# Altium schematic symbol library 接口.SchLib: 85 symbols
Pins are listed as number, name and electrical type; pins without a type are passive.

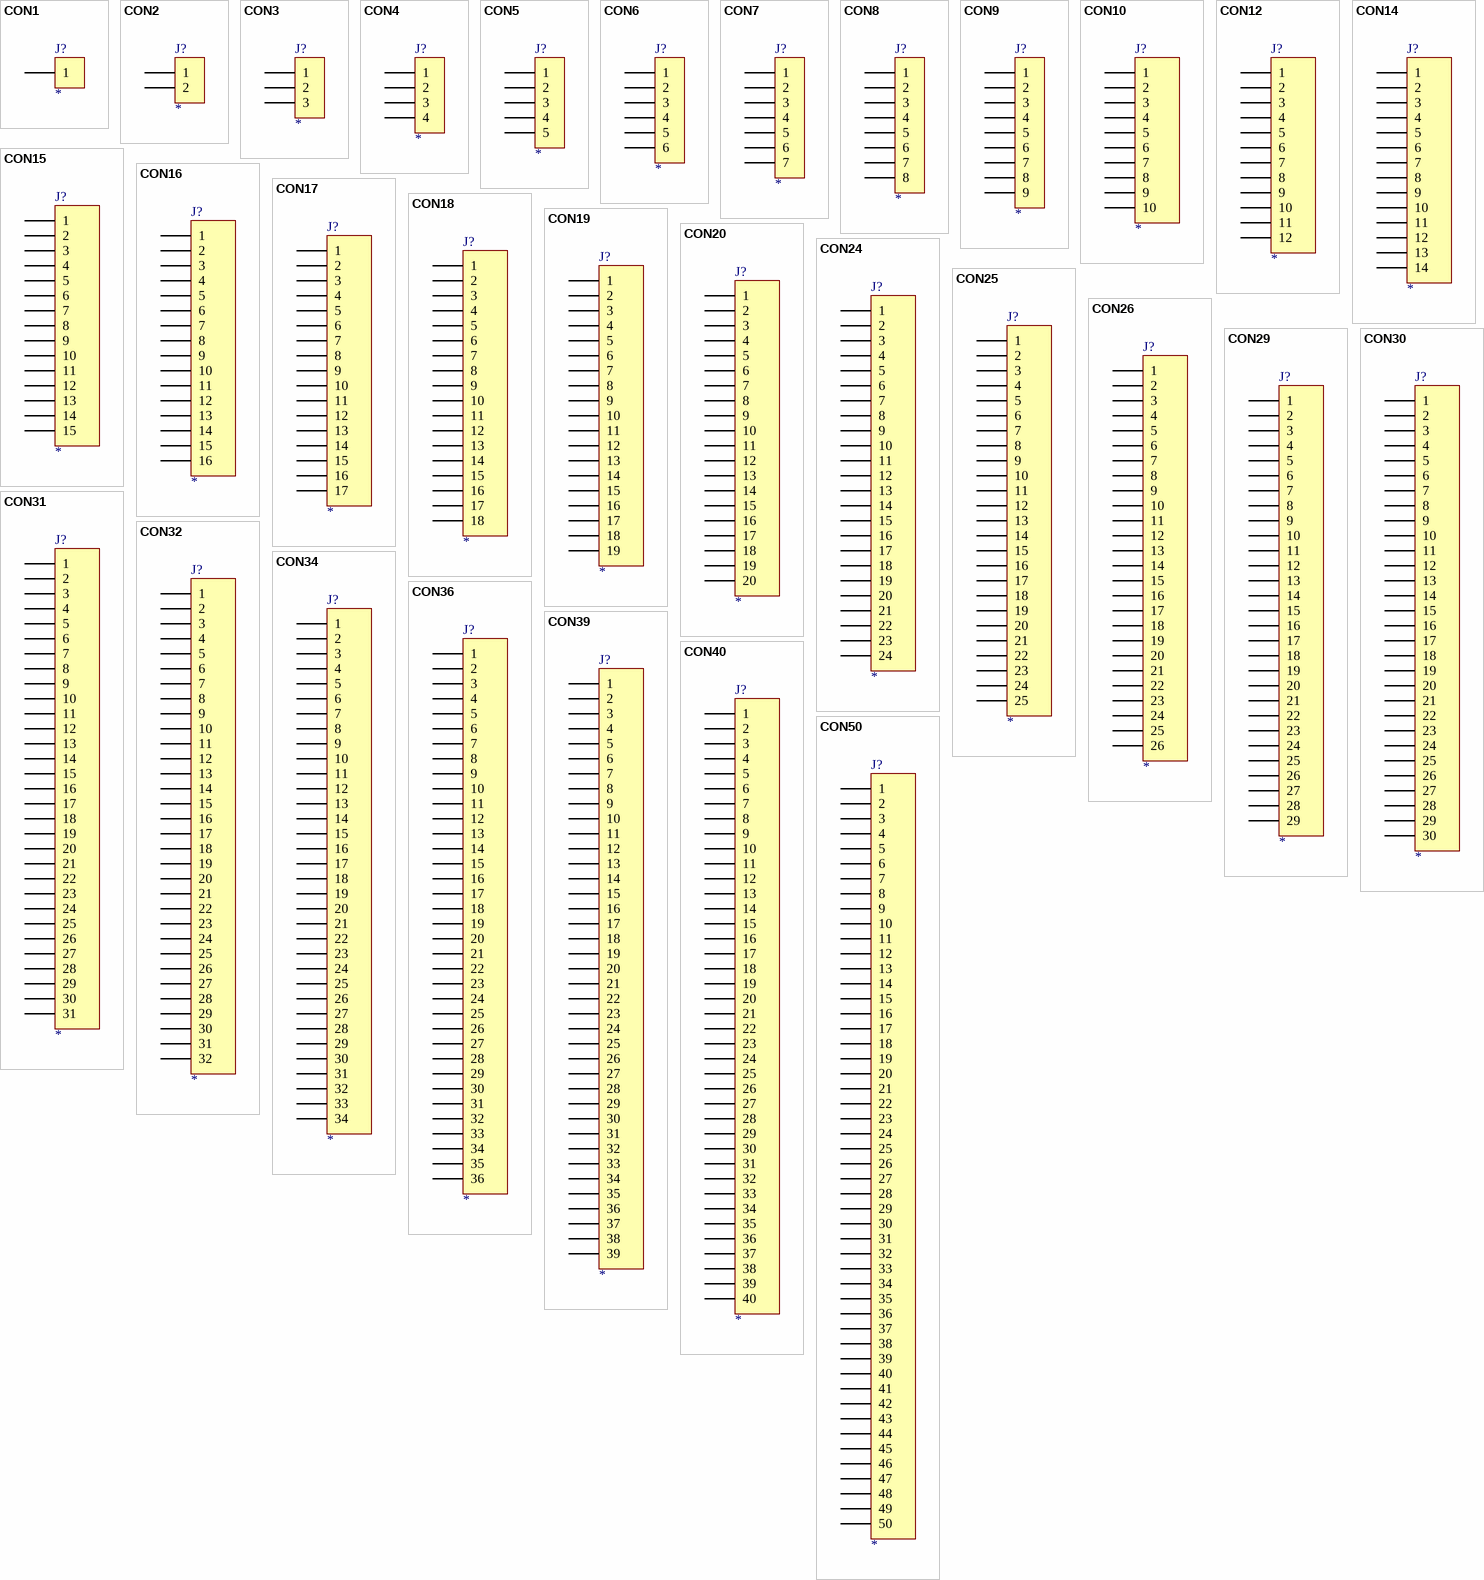
[diagram p0: symbols CON1 to CON50]

## CON1
designator J?
Connector
footprint SIP-1
footprint sip1
pins: 1

## CON2
designator J?
Connector
footprint sip2
footprint sip-2
footprint BCON2
pins: 1, 2

## CON3
designator J?
Connector
footprint sip3
footprint sip-3
footprint BCON3
pins: 1, 2, 3

## CON4
designator J?
Connector
footprint sip4
footprint sip-4
pins: 1, 2, 3, 4

## CON5
designator J?
Connector
footprint sip5
footprint sip-5
pins: 1, 2, 3, 4, 5

## CON6
designator J?
Connector
footprint sip6
footprint sip-6
pins: 1, 2, 3, 4, 5, 6

## CON7
designator J?
Connector
footprint sip7
footprint sip-7
pins: 1, 2, 3, 4, 5, 6, 7

## CON8
designator J?
Connector
footprint sip8
footprint sip-8
pins: 1, 2, 3, 4, 5, 6, 7, 8

## CON9
designator J?
Connector
footprint sip9
footprint sip-9
pins: 1, 2, 3, 4, 5, 6, 7, 8, 9

## CON10
designator J?
Connector
footprint sip10
footprint sip-10
pins: 1, 2, 3, 4, 5, 6, 7, 8, 9, 10

## CON12
designator J?
Connector
footprint sip12
footprint sip-12
pins: 1, 2, 3, 4, 5, 6, 7, 8, 9, 10, 11, 12

## CON14
designator J?
Connector
footprint sip14
footprint sip-14
pins: 1, 2, 3, 4, 5, 6, 7, 8, 9, 10, 11, 12, 13, 14

## CON15
designator J?
Connector
footprint sip15
footprint sip-15
pins: 1, 2, 3, 4, 5, 6, 7, 8, 9, 10, 11, 12, 13, 14, 15

## CON16
designator J?
Connector
footprint sip16
footprint sip-16
pins: 1, 2, 3, 4, 5, 6, 7, 8, 9, 10, 11, 12, 13, 14, 15, 16

## CON17
designator J?
Connector
footprint sip17
footprint sip-17
pins: 1, 2, 3, 4, 5, 6, 7, 8, 9, 10, 11, 12, 13, 14, 15, 16, 17

## CON18
designator J?
Connector
footprint sip18
footprint sip-18
pins: 1, 2, 3, 4, 5, 6, 7, 8, 9, 10, 11, 12, 13, 14, 15, 16, 17, 18

## CON19
designator J?
Connector
footprint sip19
footprint sip-19
pins: 1, 2, 3, 4, 5, 6, 7, 8, 9, 10, 11, 12, 13, 14, 15, 16, 17, 18, 19

## CON20
designator J?
Connector
footprint sip20
footprint sip-20
pins: 1, 2, 3, 4, 5, 6, 7, 8, 9, 10, 11, 12, 13, 14, 15, 16, 17, 18, 19, 20

## CON24
designator J?
Connector
footprint sip24
footprint sip-24
pins: 1, 2, 3, 4, 5, 6, 7, 8, 9, 10, 11, 12, 13, 14, 15, 16, 17, 18, 19, 20, 21, 22, 23, 24

## CON25
designator J?
Connector
footprint sip25
footprint sip-25
pins: 1, 2, 3, 4, 5, 6, 7, 8, 9, 10, 11, 12, 13, 14, 15, 16, 17, 18, 19, 20, 21, 22, 23, 24, 25

## CON26
designator J?
Connector
footprint sip26
footprint sip-26
pins: 1, 2, 3, 4, 5, 6, 7, 8, 9, 10, 11, 12, 13, 14, 15, 16, 17, 18, 19, 20, 21, 22, 23, 24, 25, 26

## CON29
designator J?
Connector
footprint sip29
footprint sip-29
pins: 1, 2, 3, 4, 5, 6, 7, 8, 9, 10, 11, 12, 13, 14, 15, 16, 17, 18, 19, 20, 21, 22, 23, 24, 25, 26, 27, 28, 29

## CON30
designator J?
Connector
footprint sip30
footprint sip-30
pins: 1, 2, 3, 4, 5, 6, 7, 8, 9, 10, 11, 12, 13, 14, 15, 16, 17, 18, 19, 20, 21, 22, 23, 24, 25, 26, 27, 28, 29, 30

## CON31
designator J?
Connector
footprint sip31
footprint sip-31
pins: 1, 2, 3, 4, 5, 6, 7, 8, 9, 10, 11, 12, 13, 14, 15, 16, 17, 18, 19, 20, 21, 22, 23, 24, 25, 26, 27, 28, 29, 30, 31

## CON32
designator J?
Connector
footprint sip32
footprint sip-32
pins: 1, 2, 3, 4, 5, 6, 7, 8, 9, 10, 11, 12, 13, 14, 15, 16, 17, 18, 19, 20, 21, 22, 23, 24, 25, 26, 27, 28, 29, 30, 31, 32

## CON34
designator J?
Connector
footprint sip34
footprint sip-34
pins: 1, 2, 3, 4, 5, 6, 7, 8, 9, 10, 11, 12, 13, 14, 15, 16, 17, 18, 19, 20, 21, 22, 23, 24, 25, 26, 27, 28, 29, 30, 31, 32, 33, 34

## CON36
designator J?
Connector
footprint sip36
footprint sip-36
pins: 1, 2, 3, 4, 5, 6, 7, 8, 9, 10, 11, 12, 13, 14, 15, 16, 17, 18, 19, 20, 21, 22, 23, 24, 25, 26, 27, 28, 29, 30, 31, 32, 33, 34, 35, 36

## CON39
designator J?
Connector
footprint sip39
footprint sip-39
pins: 1, 2, 3, 4, 5, 6, 7, 8, 9, 10, 11, 12, 13, 14, 15, 16, 17, 18, 19, 20, 21, 22, 23, 24, 25, 26, 27, 28, 29, 30, 31, 32, 33, 34, 35, 36, 37, 38, 39

## CON40
designator J?
Connector
footprint sip40
footprint sip-40
pins: 1, 2, 3, 4, 5, 6, 7, 8, 9, 10, 11, 12, 13, 14, 15, 16, 17, 18, 19, 20, 21, 22, 23, 24, 25, 26, 27, 28, 29, 30, 31, 32, 33, 34, 35, 36, 37, 38, 39, 40

## CON50
designator J?
Connector
footprint sip50
footprint sip-50
pins: 1, 2, 3, 4, 5, 6, 7, 8, 9, 10, 11, 12, 13, 14, 15, 16, 17, 18, 19, 20, 21, 22, 23, 24, 25, 26, 27, 28, 29, 30, 31, 32, 33, 34, 35, 36, 37, 38, 39, 40, 41, 42, 43, 44, 45, 46, 47, 48, 49, 50

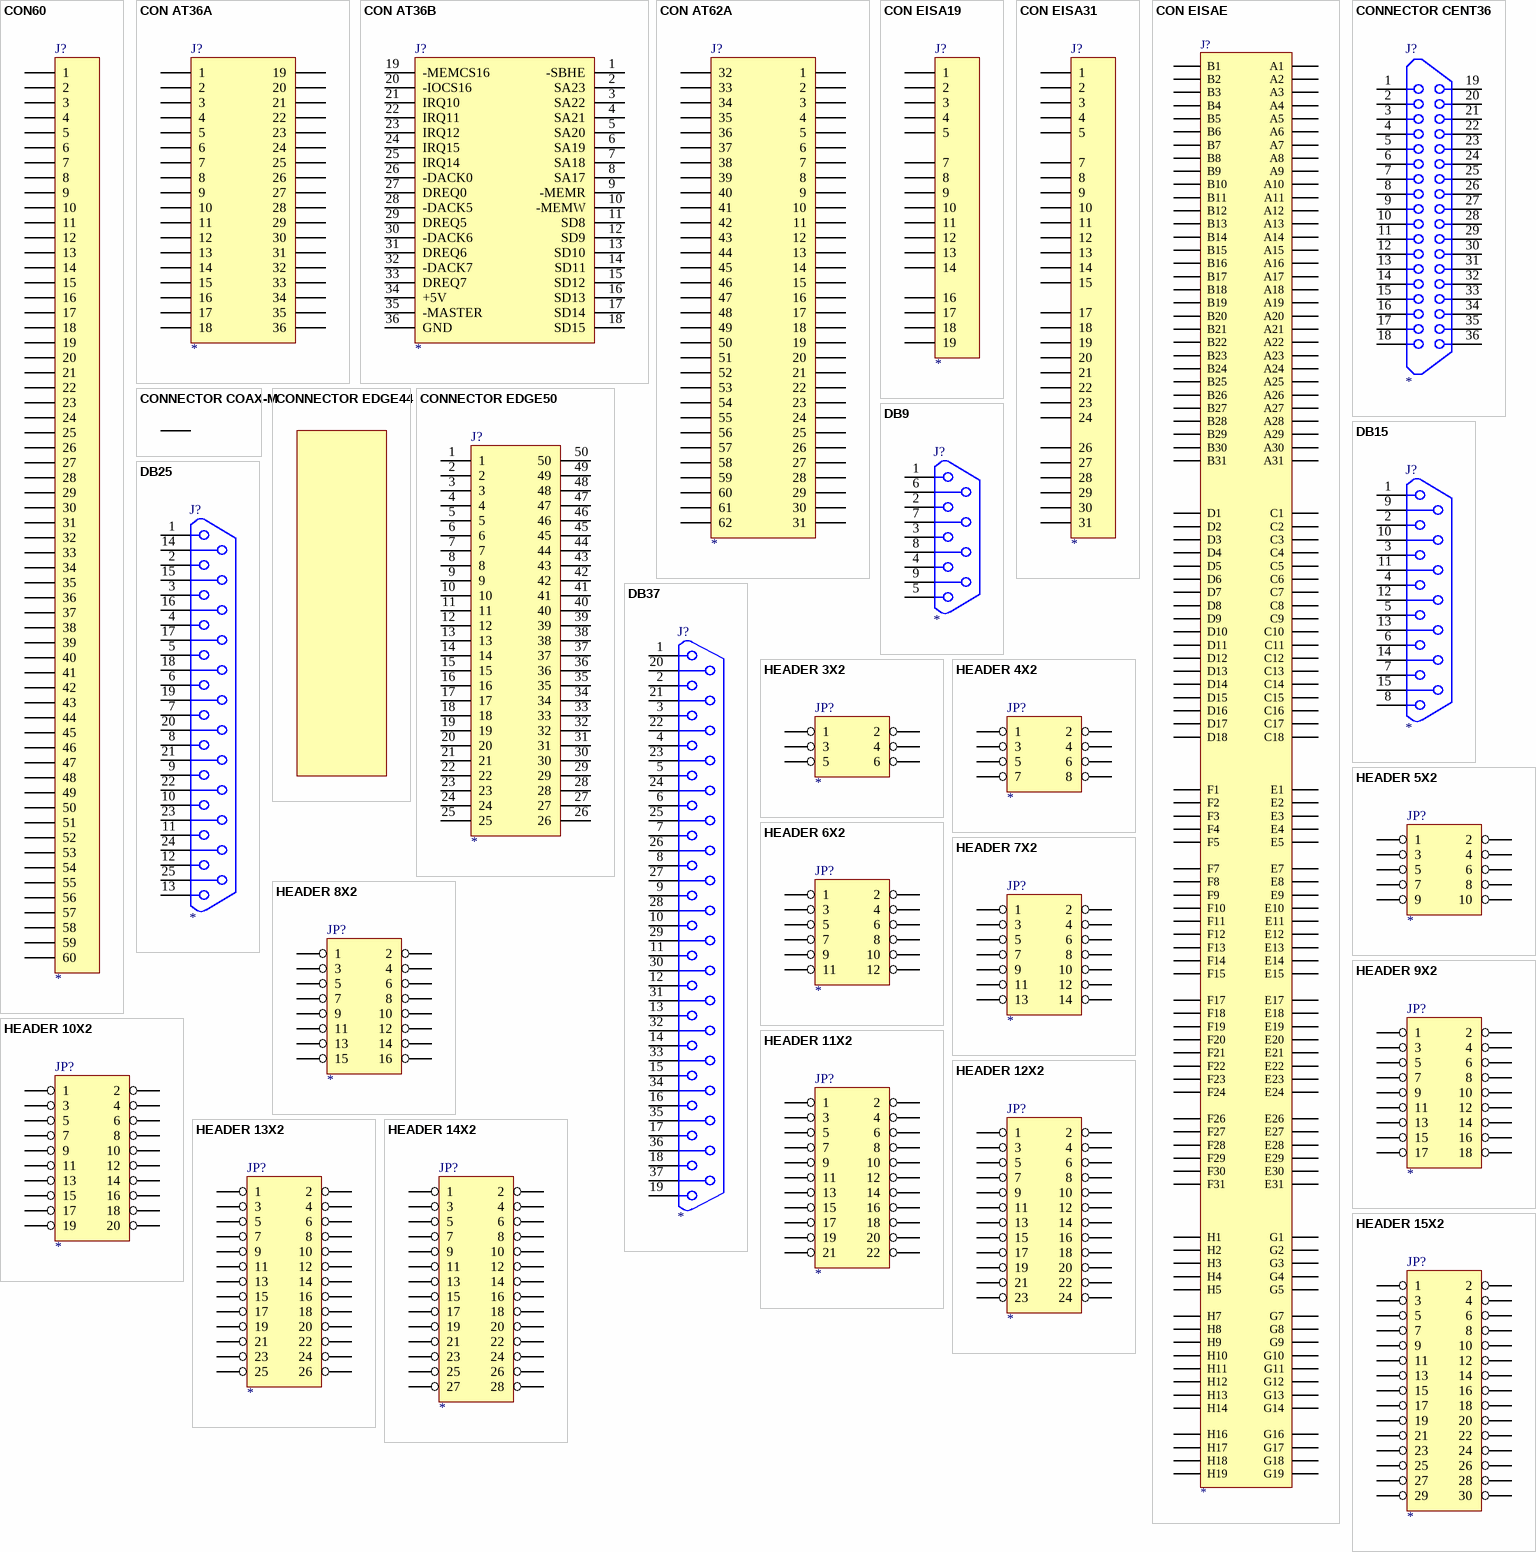
[diagram p1: symbols CON60 to HEADER 15X2]

## CON60
designator J?
Connector
footprint sip60
footprint sip-60
pins: 1, 2, 3, 4, 5, 6, 7, 8, 9, 10, 11, 12, 13, 14, 15, 16, 17, 18, 19, 20, 21, 22, 23, 24, 25, 26, 27, 28, 29, 30, 31, 32, 33, 34, 35, 36, 37, 38, 39, 40, 41, 42, 43, 44, 45, 46, 47, 48, 49, 50, 51, 52, 53, 54, 55, 56, 57, 58, 59, 60

## CON AT36A
designator J?
36 Pin AT Connector
pins: 1, 2, 3, 4, 5, 6, 7, 8, 9, 10, 11, 12, 13, 14, 15, 16, 17, 18, 19, 20, 21, 22, 23, 24, 25, 26, 27, 28, 29, 30, 31, 32, 33, 34, 35, 36

## CON AT36B
designator J?
36 Pin AT Connector
pins: 1 -SBHE, 2 SA23, 3 SA22, 4 SA21, 5 SA20, 6 SA19, 7 SA18, 8 SA17, 9 -MEMR, 10 -MEMW, 11 SD8, 12 SD9, 13 SD10, 14 SD11, 15 SD12, 16 SD13, 17 SD14, 18 SD15, 19 -MEMCS16, 20 -IOCS16, 21 IRQ10, 22 IRQ11, 23 IRQ12, 24 IRQ15, 25 IRQ14, 26 -DACK0, 27 DREQ0, 28 -DACK5, 29 DREQ5, 30 -DACK6, 31 DREQ6, 32 -DACK7, 33 DREQ7, 34 +5V, 35 -MASTER, 36 GND

## CON AT62A
designator J?
62 Pin AT Connector
pins: 1, 2, 3, 4, 5, 6, 7, 8, 9, 10, 11, 12, 13, 14, 15, 16, 17, 18, 19, 20, 21, 22, 23, 24, 25, 26, 27, 28, 29, 30, 31, 32, 33, 34, 35, 36, 37, 38, 39, 40, 41, 42, 43, 44, 45, 46, 47, 48, 49, 50, 51, 52, 53, 54, 55, 56, 57, 58, 59, 60, 61, 62

## CON EISA19
designator J?
19 Pin EISA Connector
pins: 1, 2, 3, 4, 5, 7, 8, 9, 10, 11, 12, 13, 14, 16, 17, 18, 19

## CON EISA31
designator J?
31 Pin EISA Connector
pins: 1, 2, 3, 4, 5, 7, 8, 9, 10, 11, 12, 13, 14, 15, 17, 18, 19, 20, 21, 22, 23, 24, 26, 27, 28, 29, 30, 31

## CON EISA62
designator ?
62 Pin EISA Connector

## CON EISAE
designator J?
168 Pin EISA Connector
pins: A1, A2, A3, A4, A5, A6, A7, A8, A9, A10, A11, A12, A13, A14, A15, A16, A17, A18, A19, A20, A21, A22, A23, A24, A25, A26, A27, A28, A29, A30, A31, B1, B2, B3, B4, B5, B6, B7, B8, B9, B10, B11, B12, B13, B14, B15, B16, B17, B18, B19, B20, B21, B22, B23, B24, B25, B26, B27, B28, B29, B30, B31, C1, C2, C3, C4, C5, C6, C7, C8, C9, C10, C11, C12, C13, C14, C15, C16, C17, C18, D1, D2, D3, D4, D5, D6, D7, D8, D9, D10, D11, D12, D13, D14, D15, D16, D17, D18, E1, E2, E3, E4, E5, E7, E8, E9, E10, E11, E12, E13, E14, E15, E17, E18, E19, E20, E21, E22, E23, E24, E26, E27, E28, E29, E30, E31, F1, F2, F3, F4, F5, F7, F8, F9, F10, F11, F12, F13, F14, F15, F17, F18, F19, F20, F21, F22, F23, F24, F26, F27, F28, F29, F30, F31, G1, G2, G3, G4, G5, G7, G8, G9, G10, G11, G12, G13, G14, G16, G17, G18, G19, H1, H2, H3, H4, H5, H7, H8, H9, H10, H11, H12, H13, H14, H16, H17, H18, H19

## CONNECTOR CENT36
designator J?
pins: 1, 2, 3, 4, 5, 6, 7, 8, 9, 10, 11, 12, 13, 14, 15, 16, 17, 18, 19, 20, 21, 22, 23, 24, 25, 26, 27, 28, 29, 30, 31, 32, 33, 34, 35, 36

## CONNECTOR COAX
designator ?

## CONNECTOR COAX-F
designator ?

## CONNECTOR COAX-M
designator ?
pins: A

## CONNECTOR EDGE44
designator ?
pins: ?1 |&|@%A  (in) hidden "lï622~&|%"	âÿ 3�33|&|%@�A   Àï444\&|% "

## CONNECTOR EDGE50
designator J?
pins: 1, 2, 3, 4, 5, 6, 7, 8, 9, 10, 11, 12, 13, 14, 15, 16, 17, 18, 19, 20, 21, 22, 23, 24, 25, 26, 27, 28, 29, 30, 31, 32, 33, 34, 35, 36, 37, 38, 39, 40, 41, 42, 43, 44, 45, 46, 47, 48, 49, 50

## DB9
designator J?
footprint DB9FL
pins: 1, 2, 3, 4, 5, 6, 7, 8, 9

## DB15
designator J?
footprint DB-15/M
pins: 1, 2, 3, 4, 5, 6, 7, 8, 9, 10, 11, 12, 13, 14, 15

## DB25
designator J?
pins: 1, 2, 3, 4, 5, 6, 7, 8, 9, 10, 11, 12, 13, 14, 15, 16, 17, 18, 19, 20, 21, 22, 23, 24, 25

## DB37
designator J?
footprint DB-37/M
pins: 1, 2, 3, 4, 5, 6, 7, 8, 9, 10, 11, 12, 13, 14, 15, 16, 17, 18, 19, 20, 21, 22, 23, 24, 25, 26, 27, 28, 29, 30, 31, 32, 33, 34, 35, 36, 37

## HEADER 3X2
designator JP?
footprint IDC6
footprint IDC-6
pins: 1, 2, 3, 4, 5, 6

## HEADER 4X2
designator JP?
footprint IDC8
footprint IDC-8
pins: 1, 2, 3, 4, 5, 6, 7, 8

## HEADER 5X2
designator JP?
footprint IDC10
footprint IDC-10
pins: 1, 2, 3, 4, 5, 6, 7, 8, 9, 10

## HEADER 6X2
designator JP?
footprint IDC12
footprint IDC-12
pins: 1, 2, 3, 4, 5, 6, 7, 8, 9, 10, 11, 12

## HEADER 7X2
designator JP?
footprint IDC14
footprint IDC-14
pins: 1, 2, 3, 4, 5, 6, 7, 8, 9, 10, 11, 12, 13, 14

## HEADER 8X2
designator JP?
footprint IDC16
footprint IDC-16
pins: 1, 2, 3, 4, 5, 6, 7, 8, 9, 10, 11, 12, 13, 14, 15, 16

## HEADER 9X2
designator JP?
footprint IDC18
footprint IDC-18
pins: 1, 2, 3, 4, 5, 6, 7, 8, 9, 10, 11, 12, 13, 14, 15, 16, 17, 18

## HEADER 10X2
designator JP?
footprint IDC20
footprint IDC-20
pins: 1, 2, 3, 4, 5, 6, 7, 8, 9, 10, 11, 12, 13, 14, 15, 16, 17, 18, 19, 20

## HEADER 11X2
designator JP?
footprint IDC22
footprint IDC-22
pins: 1, 2, 3, 4, 5, 6, 7, 8, 9, 10, 11, 12, 13, 14, 15, 16, 17, 18, 19, 20, 21, 22

## HEADER 12X2
designator JP?
footprint IDC24
footprint IDC-24
pins: 1, 2, 3, 4, 5, 6, 7, 8, 9, 10, 11, 12, 13, 14, 15, 16, 17, 18, 19, 20, 21, 22, 23, 24

## HEADER 13X2
designator JP?
footprint IDC26
footprint IDC-26
pins: 1, 2, 3, 4, 5, 6, 7, 8, 9, 10, 11, 12, 13, 14, 15, 16, 17, 18, 19, 20, 21, 22, 23, 24, 25, 26

## HEADER 14X2
designator JP?
footprint IDC28
footprint IDC-28
pins: 1, 2, 3, 4, 5, 6, 7, 8, 9, 10, 11, 12, 13, 14, 15, 16, 17, 18, 19, 20, 21, 22, 23, 24, 25, 26, 27, 28

## HEADER 15X2
designator JP?
footprint IDC30
footprint IDC-30
pins: 1, 2, 3, 4, 5, 6, 7, 8, 9, 10, 11, 12, 13, 14, 15, 16, 17, 18, 19, 20, 21, 22, 23, 24, 25, 26, 27, 28, 29, 30

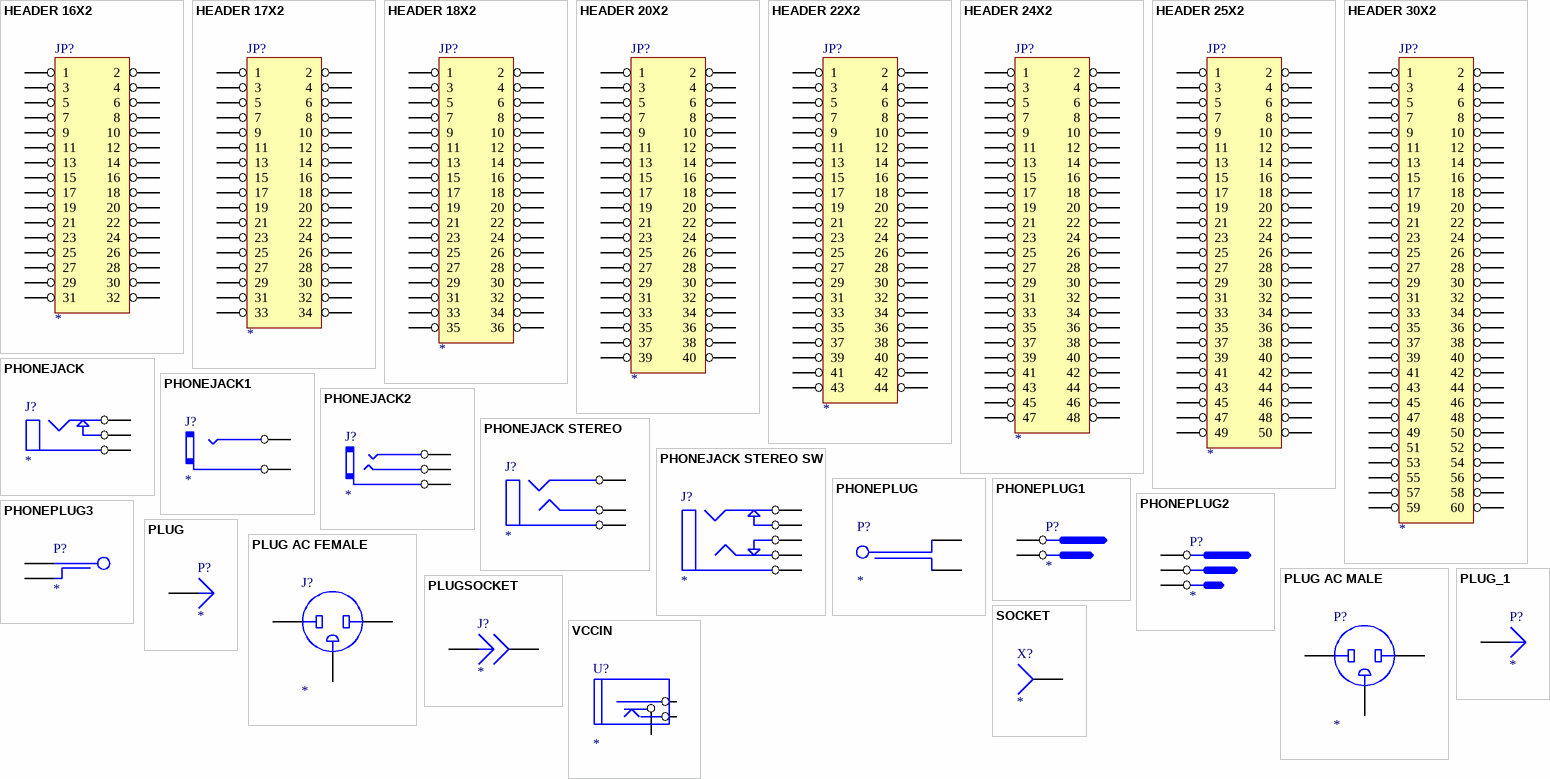
[diagram p2: symbols HEADER 16X2 to VCCIN]

## HEADER 16X2
designator JP?
footprint IDC32
footprint IDC-32
pins: 1, 2, 3, 4, 5, 6, 7, 8, 9, 10, 11, 12, 13, 14, 15, 16, 17, 18, 19, 20, 21, 22, 23, 24, 25, 26, 27, 28, 29, 30, 31, 32

## HEADER 17X2
designator JP?
footprint IDC34
footprint IDC-34
pins: 1, 2, 3, 4, 5, 6, 7, 8, 9, 10, 11, 12, 13, 14, 15, 16, 17, 18, 19, 20, 21, 22, 23, 24, 25, 26, 27, 28, 29, 30, 31, 32, 33, 34

## HEADER 18X2
designator JP?
footprint IDC36
footprint IDC-36
pins: 1, 2, 3, 4, 5, 6, 7, 8, 9, 10, 11, 12, 13, 14, 15, 16, 17, 18, 19, 20, 21, 22, 23, 24, 25, 26, 27, 28, 29, 30, 31, 32, 33, 34, 35, 36

## HEADER 20X2
designator JP?
footprint IDC40
footprint IDC-40
pins: 1, 2, 3, 4, 5, 6, 7, 8, 9, 10, 11, 12, 13, 14, 15, 16, 17, 18, 19, 20, 21, 22, 23, 24, 25, 26, 27, 28, 29, 30, 31, 32, 33, 34, 35, 36, 37, 38, 39, 40

## HEADER 22X2
designator JP?
footprint IDC44
footprint IDC-44
pins: 1, 2, 3, 4, 5, 6, 7, 8, 9, 10, 11, 12, 13, 14, 15, 16, 17, 18, 19, 20, 21, 22, 23, 24, 25, 26, 27, 28, 29, 30, 31, 32, 33, 34, 35, 36, 37, 38, 39, 40, 41, 42, 43, 44

## HEADER 24X2
designator JP?
pins: 1, 2, 3, 4, 5, 6, 7, 8, 9, 10, 11, 12, 13, 14, 15, 16, 17, 18, 19, 20, 21, 22, 23, 24, 25, 26, 27, 28, 29, 30, 31, 32, 33, 34, 35, 36, 37, 38, 39, 40, 41, 42, 43, 44, 45, 46, 47, 48

## HEADER 25X2
designator JP?
pins: 1, 2, 3, 4, 5, 6, 7, 8, 9, 10, 11, 12, 13, 14, 15, 16, 17, 18, 19, 20, 21, 22, 23, 24, 25, 26, 27, 28, 29, 30, 31, 32, 33, 34, 35, 36, 37, 38, 39, 40, 41, 42, 43, 44, 45, 46, 47, 48, 49, 50

## HEADER 30X2
designator JP?
pins: 1, 2, 3, 4, 5, 6, 7, 8, 9, 10, 11, 12, 13, 14, 15, 16, 17, 18, 19, 20, 21, 22, 23, 24, 25, 26, 27, 28, 29, 30, 31, 32, 33, 34, 35, 36, 37, 38, 39, 40, 41, 42, 43, 44, 45, 46, 47, 48, 49, 50, 51, 52, 53, 54, 55, 56, 57, 58, 59, 60

## PHONEJACK
designator J?
footprint DIP-3
pins: 1 A, 2 B, 3 C

## PHONEJACK1
designator J?
pins: 1 A, 2 B

## PHONEJACK2
designator J?
pins: 1 A, 2 B, 3 C

## PHONEJACK STEREO
designator J?
footprint DIP-3
pins: 1 A, 2 B, 3 C

## PHONEJACK STEREO SW
designator J?
pins: 1 A, 2 B, 3 C, 4 D, 5 E

## PHONEPLUG
designator P?
pins: 1 A, 2 B

## PHONEPLUG1
designator P?
pins: 1 A, 2 B

## PHONEPLUG2
designator P?
pins: 1 A, 2 B, 3 C

## PHONEPLUG3
designator P?
pins: 1 A, 2 B

## PLUG
designator P?
pins: 1

## PLUG AC FEMALE
designator J?
pins: 1 A, 2 B, 3 GND

## PLUG AC MALE
designator P?
pins: 1 A, 2 B, 3 GND

## PLUG_1
designator P?
pins: 1

## PLUGSOCKET
designator J?
pins: 1, 2

## SOCKET
designator X?
pins: 1

## VCCIN
designator U?
footprint VCCIN
pins: 1, 2, 3